# Altium footprint library 48-UFQFN - STMicroelectronics.PcbLib: 1 footprints
Each footprint in its own frame and in the unit in brackets; x right, y up, seen from the top. Pads: shape width x height; smd on the part's side, far side on the other; paste and mask are expansions set on the pad; w line width, h text height; cw(c..) or ccw(c..) is an arc to the next point about the centre after c.
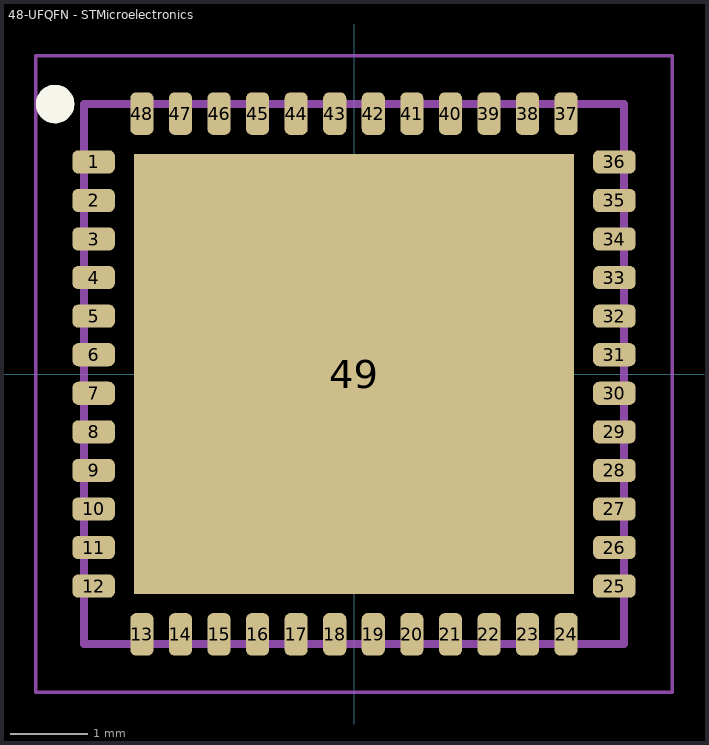
[diagram p0: the footprint, top view; thin cyan lines are the x and y axes]

## 48-UFQFN - STMicroelectronics [mm]
pads (49):
  rrect50% 0.55x0.3 smd mask+0.05: 1(-3.375,2.75) 2(-3.375,2.25) 3(-3.375,1.75) 4(-3.375,1.25) 5(-3.375,0.75) 6(-3.375,0.25) 7(-3.375,-0.25) 8(-3.375,-0.75) 9(-3.375,-1.25) 10(-3.375,-1.75) 11(-3.375,-2.25) 12(-3.375,-2.75) 25(3.375,-2.75) 26(3.375,-2.25) 27(3.375,-1.75) 28(3.375,-1.25) 29(3.375,-0.75) 30(3.375,-0.25) 31(3.375,0.25) 32(3.375,0.75) 33(3.375,1.25) 34(3.375,1.75) 35(3.375,2.25) 36(3.375,2.75)
  rrect50% 0.3x0.55 smd mask+0.05: 13(-2.75,-3.375) 14(-2.25,-3.375) 15(-1.75,-3.375) 16(-1.25,-3.375) 17(-0.75,-3.375) 18(-0.25,-3.375) 19(0.25,-3.375) 20(0.75,-3.375) 21(1.25,-3.375) 22(1.75,-3.375) 23(2.25,-3.375) 24(2.75,-3.375) 37(2.75,3.375) 38(2.25,3.375) 39(1.75,3.375) 40(1.25,3.375) 41(0.75,3.375) 42(0.25,3.375) 43(-0.25,3.375) 44(-0.75,3.375) 45(-1.25,3.375) 46(-1.75,3.375) 47(-2.25,3.375) 48(-2.75,3.375)
  rect 5.7x5.7 smd paste-2539.97 mask+0.05: 49(0,0)
Top Overlay:
  circle w0.25: c-3.875,3.5 r0.125
Top Paste:
  rectangle: -1.34,-1.33 -0.04,-0.03
  rectangle: -1.34,-2.7 -0.04,-1.4
  rectangle: -1.34,0.04 -0.04,1.34
  rectangle: 1.4,-2.7 2.7,-1.4
  rectangle: -2.71,-2.7 -1.41,-1.4
  rectangle: 0.03,-2.7 1.33,-1.4
  rectangle: 1.4,-1.33 2.7,-0.03
  rectangle: -2.71,-1.33 -1.41,-0.03
  rectangle: 0.03,-1.33 1.33,-0.03
  rectangle: 1.4,0.04 2.7,1.34
  rectangle: -2.71,0.04 -1.41,1.34
  rectangle: 0.03,0.04 1.33,1.34
  rectangle: -1.34,1.4 -0.04,2.7
  rectangle: 1.4,1.4 2.7,2.7
  rectangle: -2.71,1.4 -1.41,2.7
  rectangle: 0.03,1.4 1.33,2.7
Mechanical 15:
  lines w0.1: -3.5,-3.5 3.5,-3.5 3.5,3.5 -3.5,3.5 -3.5,-3.5
Mechanical 20:
  lines w0.05: -4.125,-4.125 4.125,-4.125 4.125,4.125 -4.125,4.125 -4.125,-4.125
Top Designator:
  text ".Designator" at -1.004,-0.112 h0.25
3D body "STM32G431CBU6.stp": height 0.57, standoff 0, extent -3.5,-3.5 3.5,3.5